# Altium footprint library TQFN-24_EP_4x5x05P.PcbLib: 1 footprints
Each footprint in its own frame and in the unit in brackets; x right, y up, seen from the top. Pads: shape width x height; smd on the part's side, far side on the other; paste and mask are expansions set on the pad; w line width, h text height; cw(c..) or ccw(c..) is an arc to the next point about the centre after c.
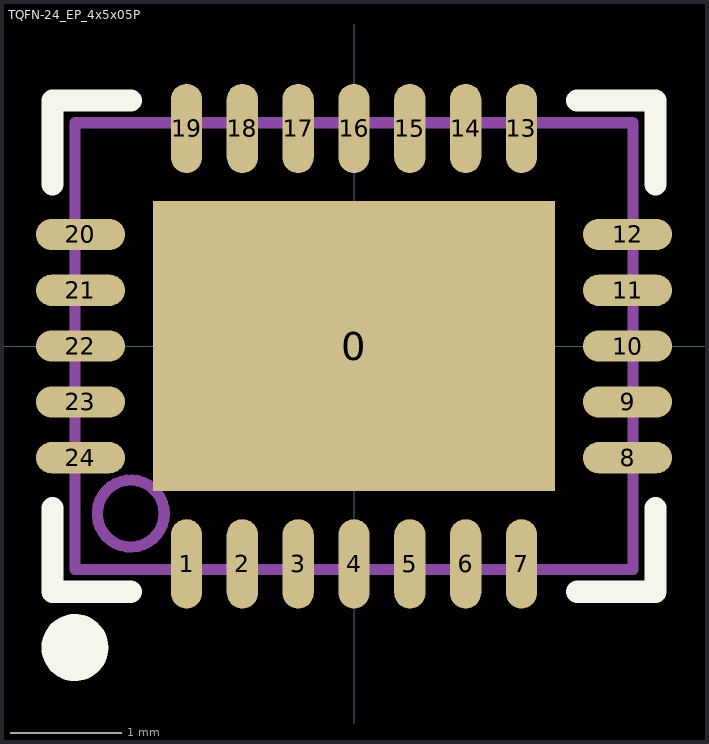
[diagram p0: the footprint, top view; thin cyan lines are the x and y axes]

## TQFN-24_EP_4x5x05P [mm]
pads (25):
  rect 3.6x2.6 smd mask+0.051: 0(0,0)
  oval 0.28x0.8 smd mask+0.051: 1(-1.5,-1.95) 2(-1,-1.95) 3(-0.5,-1.95) 4(0,-1.95) 5(0.5,-1.95) 6(1,-1.95) 7(1.5,-1.95) 13(1.5,1.95) 14(1,1.95) 15(0.5,1.95) 16(0,1.95) 17(-0.5,1.95) 18(-1,1.95) 19(-1.5,1.95)
  oval 0.8x0.28 smd mask+0.051: 8(2.45,-1) 9(2.45,-0.5) 10(2.45,0) 11(2.45,0.5) 12(2.45,1) 20(-2.45,1) 21(-2.45,0.5) 22(-2.45,0) 23(-2.45,-0.5) 24(-2.45,-1)
Top Overlay:
  circle w0.3: c-2.5,-2.7 r0.15
  lines w0.2: -2.7,-1.45 -2.7,-2.2 -2,-2.2 ; -2.7,1.45 -2.7,2.2 -2,2.2 ; 2,-2.2 2.7,-2.2 2.7,-1.45 ; 2,2.2 2.7,2.2 2.7,1.45
Mechanical 13:
  circle w0.1: c-2,-1.5 r0.3
  lines w0.1: -2.5,-2 -2.5,2 2.5,2 2.5,-2 -2.5,-2